# EAGLE library part LMX2322 (library national-semiconductor)
PLLatinumTM 2.0 GHz Frequency Synthesizer for RF Personal Communications Source: LMX2322.pdf
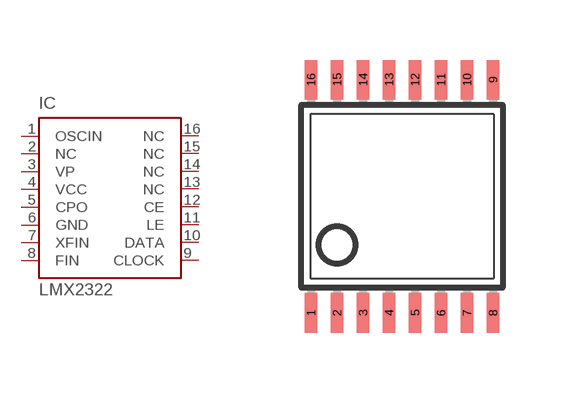
[diagram p11: symbol with the pads of TSSOP16; footprint TSSOP16]

Designator prefix IC

## LMX2322 (OC_FARNELL: unknown; OC_NEWARK: unknown)  [TSSOP16]
1  OSCIN  in
2  NC  nc
3  VP  pwr
4  VCC  pwr
5  CPO  out
6  GND  pwr
7  XFIN  in
8  FIN  in
9  CLOCK  in
10  DATA  in
11  LE  in
12  CE  in
13  NC  nc
14  NC  nc
15  NC  nc
16  NC  nc

## Footprint TSSOP16 (pad centres in mm)
Thin Shrink Small Outline Plastic 16 MAX3223-MAX3243.pdf
smd 0.305 x 0.991: 1 -2.275,-2.918; 2 -1.625,-2.918; 3 -0.975,-2.918; 4 -0.325,-2.918; 5 0.325,-2.918; 6 0.975,-2.918; 7 1.625,-2.918; 8 2.275,-2.918; 9 2.275,2.918; 10 1.625,2.918; 11 0.975,2.918; 12 0.325,2.918; 13 -0.325,2.918; 14 -0.975,2.918; 15 -1.625,2.918; 16 -2.275,2.918